# Altium schematic symbol library MISchematicLibrary.SchLib: 2 symbols
Pins are listed as number, name and electrical type; pins without a type are passive.

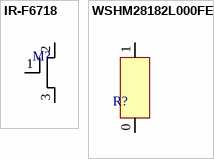
[diagram p0: symbols IR-F6718 to WSHM28182L000FEB]

## IR-F6718
designator M?  (value not drawn)
footprint IR-F6718
pins: 1, 2 1, 3 1

## WSHM28182L000FEB
designator R?  (value not drawn)
footprint WSHM28182L000FEB
pins: 0 3, 1 2